# Altium schematic symbol library Pololu Step Down Voltage Regulator.SchLib: 1 symbol
Pins are listed as number, name and electrical type; pins without a type are passive.

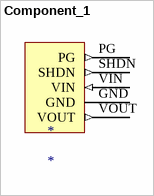
[diagram p0: symbol Component_1]

## Component_1
designator *
footprint PCBComponent_1
pins: GND, PG (out), SHDN (out), VIN (in), VOUT (out)